# Altium schematic symbol library ADuM4160BRWZ.SchLib: 1 symbol
Pins are listed as number, name and electrical type; pins without a type are passive.

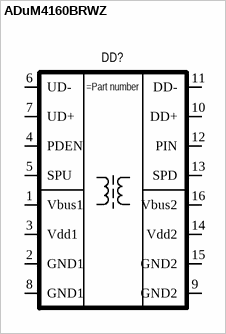
[diagram p0: symbol ADuM4160BRWZ]

## ADuM4160BRWZ
designator DD?
Full/Low Speed 5 kV USB Digital Isolator
pins: 1 Vbus1 (power), 2 GND1 (power), 3 Vdd1 (power), 4 PDEN, 5 SPU, 6 UD- (io), 7 UD+ (io), 8 GND1 (power), 9 GND2 (power), 10 DD+ (io), 11 DD- (io), 12 PIN, 13 SPD, 14 Vdd2 (power), 15 GND2 (power), 16 Vbus2 (power)